# EAGLE library part LT3845 (library Oles komponentbibliotek)
High-voltage synchronous current mode step-down voltage controller with adjustable operating frequency.
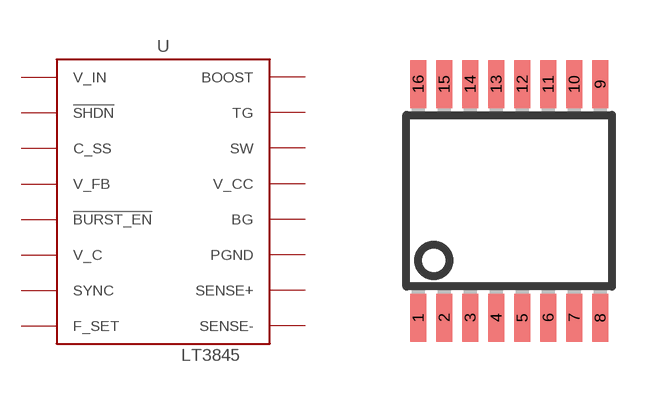
[diagram p32: symbol with the pads of SSOP16; footprint SSOP16]

Designator prefix -

## LT3845  [SSOP16]
1  V_IN  pwr
2  !SHDN  in
3  C_SS  pas
4  !BURST_EN  in
5  V_FB  pwr
6  V_C  pas
7  SYNC  pas
8  F_SET  pas
9  SENSE-  pas
10  SENSE+  pas
11  PGND  pwr
12  BG  pas
13  V_CC  pwr
14  SW  pas
15  TG  pas
16  BOOST  in

## Footprint SSOP16 (pad centres in mm)
Small Shrink Outline Package
smd 0.4 x 1.2: 1 -2.275,-2.925; 2 -1.625,-2.925; 3 -0.975,-2.925; 4 -0.325,-2.925; 5 0.325,-2.925; 6 0.975,-2.925; 7 1.625,-2.925; 8 2.275,-2.925; 9 2.275,2.925; 10 1.625,2.925; 11 0.975,2.925; 12 0.325,2.925; 13 -0.325,2.925; 14 -0.975,2.925; 15 -1.625,2.925; 16 -2.275,2.925